# EAGLE library part LTC1564 (library Zoli2_2015-01-28)
Programmable gain amplifier and low pass filter
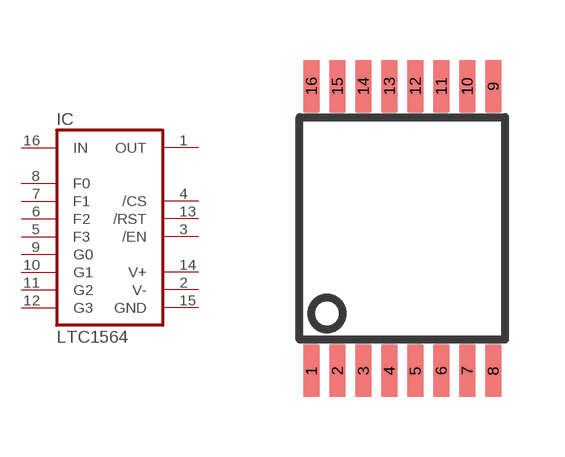
[diagram p32: symbol with the pads of SSOP16; footprint SSOP16]

Designator prefix IC

## LTC1564CG  [SSOP16]
1  OUT  out
2  V-  pwr
3  /EN  in
4  /CS  in
5  F3  in
6  F2  in
7  F1  in
8  F0  in
9  G0  in
10  G1  in
11  G2  in
12  G3  in
13  /RST  in
14  V+  pwr
15  GND  pwr
16  IN  in

## Footprint SSOP16 (pad centres in mm)
Small Shrink Outline Package
smd 0.4 x 1.3: 1 -2.275,-3.56; 2 -1.625,-3.56; 3 -0.975,-3.56; 4 -0.325,-3.56; 5 0.325,-3.56; 6 0.975,-3.56; 7 1.625,-3.56; 8 2.275,-3.56; 9 2.275,3.56; 10 1.625,3.56; 11 0.975,3.56; 12 0.325,3.56; 13 -0.325,3.56; 14 -0.975,3.56; 15 -1.625,3.56; 16 -2.275,3.56